# Altium schematic symbol library mcu_8bit_avr_usb_can_c51.SchLib: 20 symbols
Pins are listed as number, name and electrical type; pins without a type are passive.

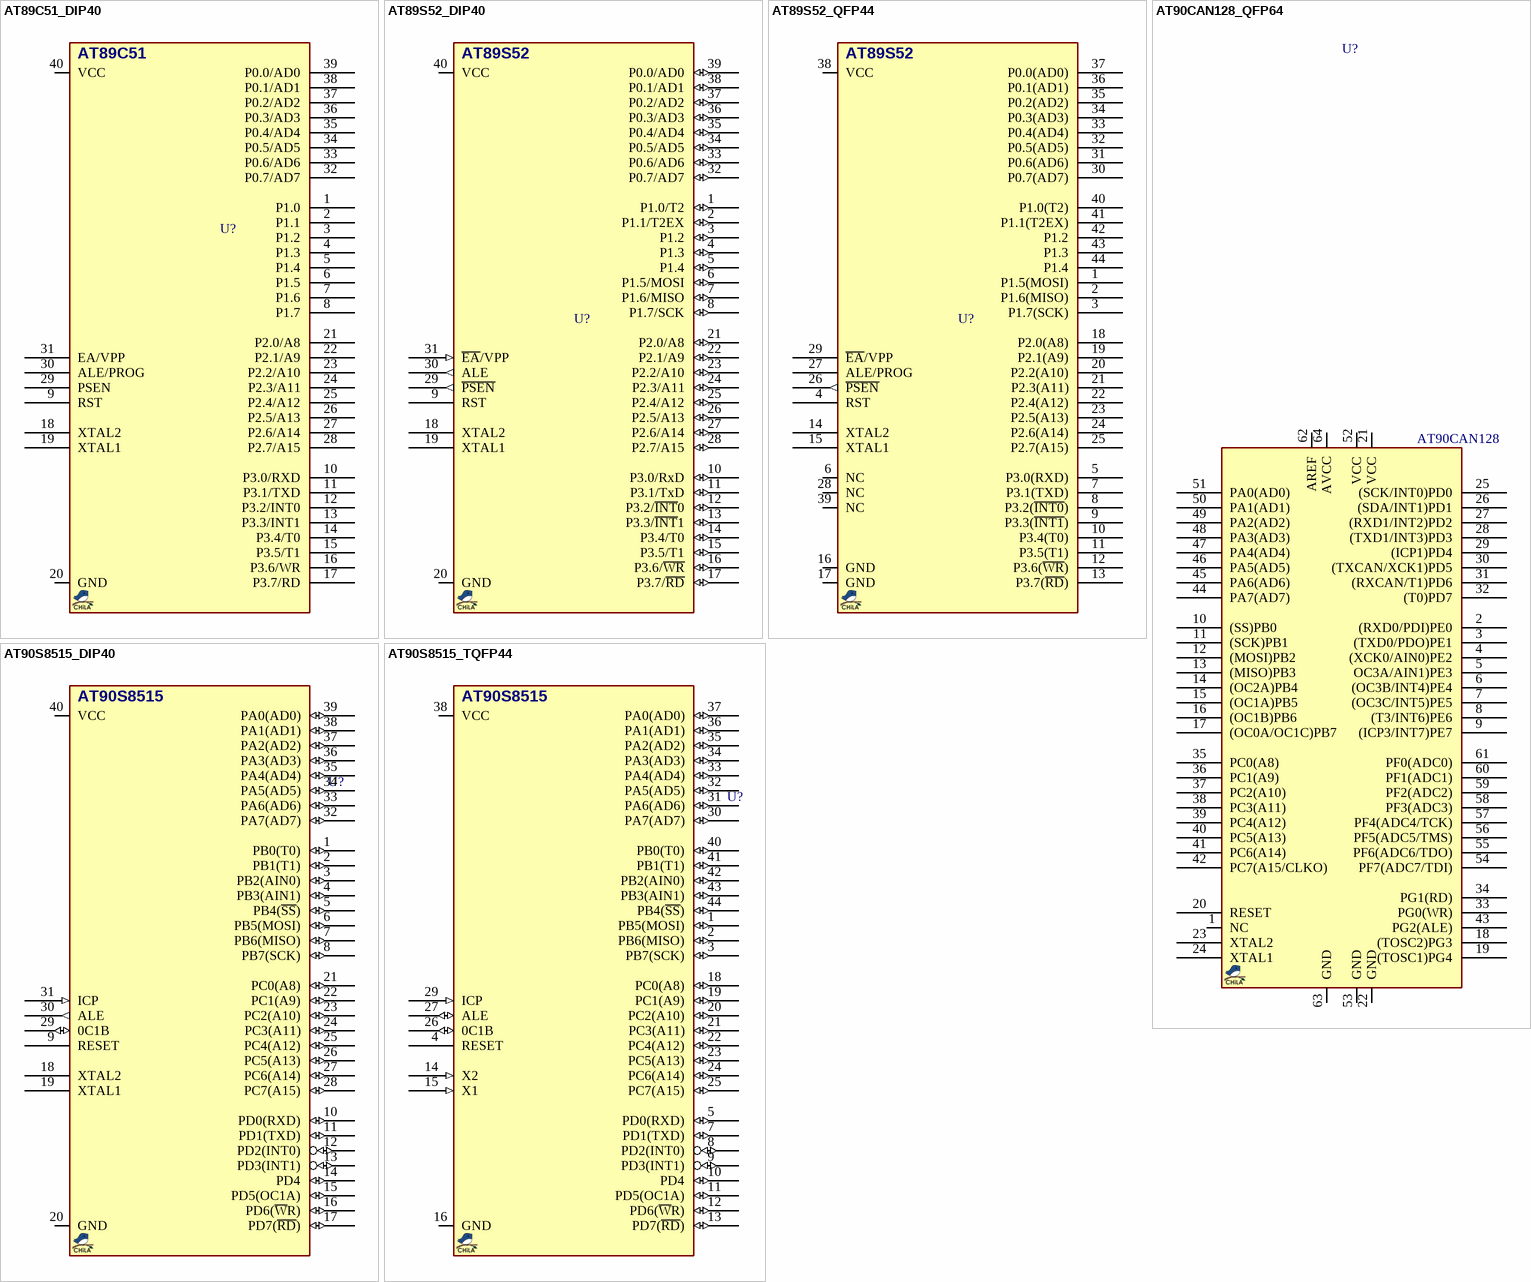
[diagram p0: symbols AT89C51_DIP40 to AT90S8515_TQFP44]

## AT89C51_DIP40
designator U?, comment AT89C51  (value not drawn)
MCU, 8051, 4KB, 24MHz; MANF_P#: AT89C51-24PI; MANF: ATMEL/MICROCHIP; PARAM2: 5V; PARAM: 128B RAM, -40~85oC; VALUE: AT89C51
footprint DIP_40DW (DIP, pitch 2.54mm, 600mil Width)
pins: 1 P1.0, 2 P1.1, 3 P1.2, 4 P1.3, 5 P1.4, 6 P1.5, 7 P1.6, 8 P1.7, 9 RST, 10 P3.0/RXD, 11 P3.1/TXD, 12 P3.2/INT0, 13 P3.3/INT1, 14 P3.4/T0, 15 P3.5/T1, 16 P3.6/WR, 17 P3.7/RD, 18 XTAL2, 19 XTAL1, 20 GND, 21 P2.0/A8, 22 P2.1/A9, 23 P2.2/A10, 24 P2.3/A11, 25 P2.4/A12, 26 P2.5/A13, 27 P2.6/A14, 28 P2.7/A15, 29 PSEN, 30 ALE/PROG, 31 EA/VPP, 32 P0.7/AD7, 33 P0.6/AD6, 34 P0.5/AD5, 35 P0.4/AD4, 36 P0.3/AD3, 37 P0.2/AD2, 38 P0.1/AD1, 39 P0.0/AD0, 40 VCC

## AT89S52_DIP40
designator U?, comment AT89S52  (value not drawn)
MCU, 8051, 8KB, up to 33MHz; MANF_P#: AT89S52-24PU; MANF: ATMEL/MICROCHIP; PARAM2: 4~5.5VCC; PARAM: 256B RAM, -40~85oC; PRICE: 2.5$; VALUE: AT89S52
footprint DIP_40DW (DIP, pitch 2.54mm, 600mil Width)
pins: 1 P1.0/T2 (io), 2 P1.1/T2EX (io), 3 P1.2 (io), 4 P1.3 (io), 5 P1.4 (io), 6 P1.5/MOSI (io), 7 P1.6/MISO (io), 8 P1.7/SCK (io), 9 RST, 10 P3.0/RxD (io), 11 P3.1/TxD (io), 12 P3.2/~{INT}0 (io), 13 P3.3/~{INT}1 (io), 14 P3.4/T0 (io), 15 P3.5/T1 (io), 16 P3.6/~{WR} (io), 17 P3.7/~{RD} (io), 18 XTAL2, 19 XTAL1, 20 GND, 21 P2.0/A8 (io), 22 P2.1/A9 (io), 23 P2.2/A10 (io), 24 P2.3/A11 (io), 25 P2.4/A12 (io), 26 P2.5/A13 (io), 27 P2.6/A14 (io), 28 P2.7/A15 (io), 29 ~{PSEN} (out), 30 ALE (out), 31 ~{EA}/VPP (in), 32 P0.7/AD7 (io), 33 P0.6/AD6 (io), 34 P0.5/AD5 (io), 35 P0.4/AD4 (io), 36 P0.3/AD3 (io), 37 P0.2/AD2 (io), 38 P0.1/AD1 (io), 39 P0.0/AD0 (io), 40 VCC

## AT89S52_QFP44
designator U?, comment AT89S52  (value not drawn)
MCU, 8051, 8KB, up to 33MHz; MANF_P#: AT89S52-24AU; MANF: ATMEL/MICROCHIP; PARAM2: 4~5.5VCC; PARAM: 256B RAM, -40~85oC; PRICE: 1.6$; VALUE: AT89S52
footprint QFG80_44 (TQFP44, PQFP44, A44 (Cypress), QFP44/MQFP44N (Dallas), VQ44,VQG44 (Xilinx), MS-026ACB, MS-022AB(JEDEC), 44A, 10.5X10.5, 0.8mm)
pins: 1 P1.5(MOSI), 2 P1.6(MISO), 3 P1.7(SCK), 4 RST, 5 P3.0(RXD), 6 NC, 7 P3.1(TXD), 8 P3.2(~{INT0}), 9 P3.3(~{INT1}), 10 P3.4(T0), 11 P3.5(T1), 12 P3.6(~{WR}), 13 P3.7(~{RD}), 14 XTAL2, 15 XTAL1, 16 GND, 17 GND, 18 P2.0(A8), 19 P2.1(A9), 20 P2.2(A10), 21 P2.3(A11), 22 P2.4(A12), 23 P2.5(A13), 24 P2.6(A14), 25 P2.7(A15), 26 ~{PSEN} (out), 27 ALE/PROG, 28 NC, 29 ~{EA}/VPP, 30 P0.7(AD7), 31 P0.6(AD6), 32 P0.5(AD5), 33 P0.4(AD4), 34 P0.3(AD3), 35 P0.2(AD2), 36 P0.1(AD1), 37 P0.0(AD0), 38 VCC, 39 NC, 40 P1.0(T2), 41 P1.1(T2EX), 42 P1.2, 43 P1.3, 44 P1.4

## AT90CAN128_QFP64
designator U?, comment AT90CAN128
MCU, AVR, 8-Bit, CAN, 128KB flash, 4KB SRAM, 16MHz; MANF_P#: AT90CAN128-16AU; MANF: ATMEL/MICROCHIP; PARAM2: 2.7~5.5v; PARAM: 128KB flash, 4KB SRAM, -40~85°C; PRICE: 7.5$; VALUE: AT90CAN128
footprint QFG80_64 (TQFP64, N65 (Cypress), , MS-026 AEB(JEDEC), 64A (atmel), 14X14mm, 0.8mm)
pins: 1 NC, 2 (RXD0/PDI)PE0, 3 (TXD0/PDO)PE1, 4 (XCK0/AIN0)PE2, 5 OC3A/AIN1)PE3, 6 (OC3B/INT4)PE4, 7 (OC3C/INT5)PE5, 8 (T3/INT6)PE6, 9 (ICP3/INT7)PE7, 10 (SS)PB0, 11 (SCK)PB1, 12 (MOSI)PB2, 13 (MISO)PB3, 14 (OC2A)PB4, 15 (OC1A)PB5, 16 (OC1B)PB6, 17 (OC0A/OC1C)PB7, 18 (TOSC2)PG3, 19 (TOSC1)PG4, 20 RESET, 21 VCC, 22 GND, 23 XTAL2, 24 XTAL1, 25 (SCK/INT0)PD0, 26 (SDA/INT1)PD1, 27 (RXD1/INT2)PD2, 28 (TXD1/INT3)PD3, 29 (ICP1)PD4, 30 (TXCAN/XCK1)PD5, 31 (RXCAN/T1)PD6, 32 (T0)PD7, 33 PG0(WR), 34 PG1(RD), 35 PC0(A8), 36 PC1(A9), 37 PC2(A10), 38 PC3(A11), 39 PC4(A12), 40 PC5(A13), 41 PC6(A14), 42 PC7(A15/CLKO), 43 PG2(ALE), 44 PA7(AD7), 45 PA6(AD6), 46 PA5(AD5), 47 PA4(AD4), 48 PA3(AD3), 49 PA2(AD2), 50 PA1(AD1), 51 PA0(AD0), 52 VCC, 53 GND, 54 PF7(ADC7/TDI), 55 PF6(ADC6/TDO), 56 PF5(ADC5/TMS), 57 PF4(ADC4/TCK), 58 PF3(ADC3), 59 PF2(ADC2), 60 PF1(ADC1), 61 PF0(ADC0), 62 AREF, 63 GND, 64 AVCC

## AT90S8515_DIP40
designator U?, comment AT90S8515  (value not drawn)
MCU, AVR, 8-Bit, 8KB, 512B RAM, 8MHz; MANF_P#: AT90S8515-8PC; DESC: ATMEGA161_DIP40, ATMEGA162, ATMEGA8515; MANF: ATMEL/MICROCHIP; PARAM2: 4~6V; PARAM: 8KB, 512B RAM, 8MHz; PRICE: Obsolete; VALUE: AT90S8515
footprint DIP_40DW (DIP, pitch 2.54mm, 600mil Width)
pins: 1 PB0(T0) (io), 2 PB1(T1) (io), 3 PB2(AIN0) (io), 4 PB3(AIN1) (io), 5 PB4(~{SS}) (io), 6 PB5(MOSI) (io), 7 PB6(MISO) (io), 8 PB7(SCK) (io), 9 RESET, 10 PD0(RXD) (io), 11 PD1(TXD) (io), 12 PD2(INT0) (io), 13 PD3(INT1) (io), 14 PD4 (io), 15 PD5(OC1A) (io), 16 PD6(~{W}R) (io), 17 PD7(~{RD}) (io), 18 XTAL2, 19 XTAL1, 20 GND, 21 PC0(A8) (io), 22 PC1(A9) (io), 23 PC2(A10) (io), 24 PC3(A11) (io), 25 PC4(A12) (io), 26 PC5(A13) (io), 27 PC6(A14) (io), 28 PC7(A15) (io), 29 0C1B (io), 30 ALE (out), 31 ICP (in), 32 PA7(AD7) (io), 33 PA6(AD6) (io), 34 PA5(AD5) (io), 35 PA4(AD4) (io), 36 PA3(AD3) (io), 37 PA2(AD2) (io), 38 PA1(AD1) (io), 39 PA0(AD0) (io), 40 VCC

## AT90S8515_TQFP44
designator U?
MCU, AVR, 8-Bit, 8KB, 512B RAM, 8MHz; MANF_P#: AT90S8515-8AC; DESC: ATMEGA161_TQFP44, ATMEGA162, ATMEGA8515; MANF: ATMEL/MICROCHIP; PARAM2: 4~6V; PARAM: 8KB, 512B RAM, 8MHz; PRICE: Obsolete
footprint QFG80_44 (TQFP44, PQFP44, A44 (Cypress), QFP44/MQFP44N (Dallas), VQ44,VQG44 (Xilinx), MS-026ACB, MS-022AB(JEDEC), 44A, 10.5X10.5, 0.8mm)
pins: 1 PB5(MOSI) (io), 2 PB6(MISO) (io), 3 PB7(SCK) (io), 4 RESET, 5 PD0(RXD) (io), 7 PD1(TXD) (io), 8 PD2(INT0) (io), 9 PD3(INT1) (io), 10 PD4 (io), 11 PD5(OC1A) (io), 12 PD6(~{W}R) (io), 13 PD7(~{RD}) (io), 14 X2 (in), 15 X1 (in), 16 GND (power), 18 PC0(A8) (io), 19 PC1(A9) (io), 20 PC2(A10) (io), 21 PC3(A11) (io), 22 PC4(A12) (io), 23 PC5(A13) (io), 24 PC6(A14) (io), 25 PC7(A15) (io), 26 0C1B (io), 27 ALE (io), 29 ICP (in), 30 PA7(AD7) (io), 31 PA6(AD6) (io), 32 PA5(AD5) (io), 33 PA4(AD4) (io), 34 PA3(AD3) (io), 35 PA2(AD2) (io), 36 PA1(AD1) (io), 37 PA0(AD0) (io), 38 VCC (power), 40 PB0(T0) (io), 41 PB1(T1) (io), 42 PB2(AIN0) (io), 43 PB3(AIN1) (io), 44 PB4(~{SS}) (io)
text: AT90S8515

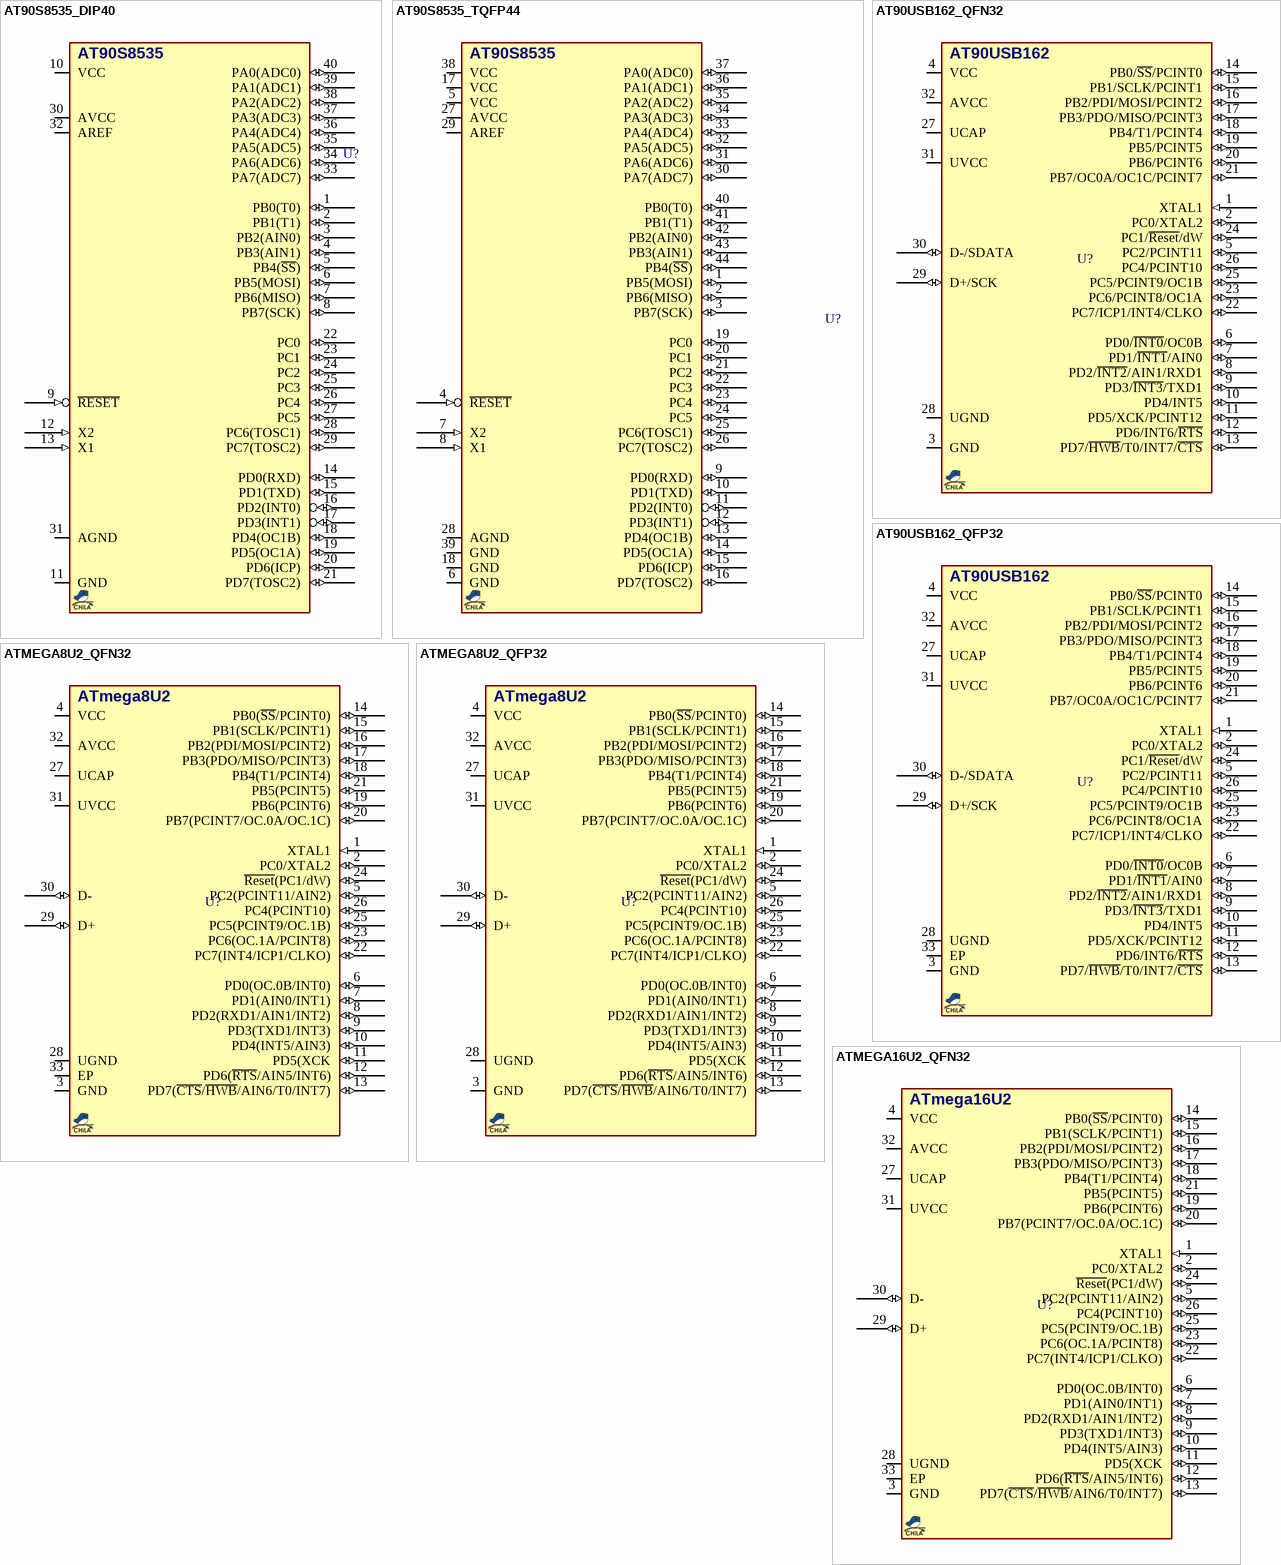
[diagram p1: symbols AT90S8535_DIP40 to ATMEGA16U2_QFN32]

## AT90S8535_DIP40
designator U?, comment AT90S8535  (value not drawn)
MCU, AVR, 8-Bit, 8KB, 512B RAM, 8MHz; MANF_P#: AT90S8535-8PI; DESC: ATMEGA16_DIP40, ATMEGA163, ATMEGA32, ATMEGA323, ATMEGA8535; MANF: ATMEL/MICROCHIP; PARAM2: 4~6V; PARAM: 8KB, 512B RAM, 8MHz; PRICE: Obsolete; VALUE: AT90S8535
footprint DIP_40DW (DIP, pitch 2.54mm, 600mil Width)
pins: 1 PB0(T0) (io), 2 PB1(T1) (io), 3 PB2(AIN0) (io), 4 PB3(AIN1) (io), 5 PB4(~{SS}) (io), 6 PB5(MOSI) (io), 7 PB6(MISO) (io), 8 PB7(SCK) (io), 9 ~{RESET} (in), 10 VCC (power), 11 GND (power), 12 X2 (in), 13 X1 (in), 14 PD0(RXD) (io), 15 PD1(TXD) (io), 16 PD2(INT0) (io), 17 PD3(INT1) (io), 18 PD4(OC1B) (io), 19 PD5(OC1A) (io), 20 PD6(ICP) (io), 21 PD7(TOSC2) (io), 22 PC0 (io), 23 PC1 (io), 24 PC2 (io), 25 PC3 (io), 26 PC4 (io), 27 PC5 (io), 28 PC6(TOSC1) (io), 29 PC7(TOSC2) (io), 30 AVCC, 31 AGND, 32 AREF, 33 PA7(ADC7) (io), 34 PA6(ADC6) (io), 35 PA5(ADC5) (io), 36 PA4(ADC4) (io), 37 PA3(ADC3) (io), 38 PA2(ADC2) (io), 39 PA1(ADC1) (io), 40 PA0(ADC0) (io)

## AT90S8535_TQFP44
designator U?, comment AT90S8535  (value not drawn)
MCU, AVR, 8-Bit, 8KB, 512B RAM, 8MHz; MANF_P#: AT90S8535-8AI; DESC: ATMEGA16_TQFP44, ATMEGA163, ATMEGA32, ATMEGA323, ATMEGA8535; MANF: ATMEL/MICROCHIP; PARAM2: 4~6V; PARAM: 8KB, 512B RAM, 8MHz; PRICE: Obsolete; VALUE: AT90S8535
footprint QFG80_44 (TQFP44, PQFP44, A44 (Cypress), QFP44/MQFP44N (Dallas), VQ44,VQG44 (Xilinx), MS-026ACB, MS-022AB(JEDEC), 44A, 10.5X10.5, 0.8mm)
pins: 1 PB5(MOSI) (io), 2 PB6(MISO) (io), 3 PB7(SCK) (io), 4 ~{RESET} (in), 5 VCC, 6 GND, 7 X2 (in), 8 X1 (in), 9 PD0(RXD) (io), 10 PD1(TXD) (io), 11 PD2(INT0) (io), 12 PD3(INT1) (io), 13 PD4(OC1B) (io), 14 PD5(OC1A) (io), 15 PD6(ICP) (io), 16 PD7(TOSC2) (io), 17 VCC, 18 GND, 19 PC0 (io), 20 PC1 (io), 21 PC2 (io), 22 PC3 (io), 23 PC4 (io), 24 PC5 (io), 25 PC6(TOSC1) (io), 26 PC7(TOSC2) (io), 27 AVCC, 28 AGND, 29 AREF, 30 PA7(ADC7) (io), 31 PA6(ADC6) (io), 32 PA5(ADC5) (io), 33 PA4(ADC4) (io), 34 PA3(ADC3) (io), 35 PA2(ADC2) (io), 36 PA1(ADC1) (io), 37 PA0(ADC0) (io), 38 VCC (power), 39 GND (power), 40 PB0(T0) (io), 41 PB1(T1) (io), 42 PB2(AIN0) (io), 43 PB3(AIN1) (io), 44 PB4(~{SS}) (io)

## AT90USB162_QFN32
designator U?, comment AT90USB162  (value not drawn)
MCU, AVR, 8-Bit, USB, 16KB, 512B RAM, 16MHz; MANF_P#: AT90USB162-16MU; DESC: 512B EEPROM; MANF: ATMEL/MICROCHIP; PARAM2: 2.7~5.5VCC; PARAM: 16KB, 512B RAM, 16MHz, -40~85oC; PRICE: 2.7$; VALUE: AT90USB162
footprint QFN50_32T (QFN, 32, 5X5mm, 0.5mm)
pins: 1 XTAL1 (in), 2 PC0/XTAL2 (io), 3 GND (power), 4 VCC (power), 5 PC2/PCINT11 (io), 6 PD0/~{INT0}/OC0B (io), 7 PD1/~{INT1}/AIN0 (io), 8 PD2/~{INT2}/AIN1/RXD1 (io), 9 PD3/~{INT3}/TXD1 (io), 10 PD4/INT5 (io), 11 PD5/XCK/PCINT12 (io), 12 PD6/INT6/~{RTS} (io), 13 PD7/~{HWB}/T0/INT7/~{CTS} (io), 14 PB0/~{SS}/PCINT0 (io), 15 PB1/SCLK/PCINT1 (io), 16 PB2/PDI/MOSI/PCINT2 (io), 17 PB3/PDO/MISO/PCINT3 (io), 18 PB4/T1/PCINT4 (io), 19 PB5/PCINT5 (io), 20 PB6/PCINT6 (io), 21 PB7/OC0A/OC1C/PCINT7 (io), 22 PC7/ICP1/INT4/CLKO (io), 23 PC6/PCINT8/OC1A (io), 24 PC1/~{Reset}/dW (io), 25 PC5/PCINT9/OC1B (io), 26 PC4/PCINT10 (io), 27 UCAP (power), 28 UGND (power), 29 D+/SCK (io), 30 D-/SDATA (io), 31 UVCC (power), 32 AVCC (power)

## AT90USB162_QFP32
designator U?, comment AT90USB162  (value not drawn)
MCU, AVR, 8-Bit, USB, 16KB, 512B RAM, 16MHz; MANF_P#: AT90USB162-16AU; DESC: 512B EEPROM; MANF: ATMEL/MICROCHIP; PARAM2: 2.7~5.5VCC; PARAM: 16KB, 512B RAM, 16MHz, -40~85oC; PRICE: 2.7$; VALUE: AT90USB162
footprint QFG80_32 (TQFP32, A32 (Cypress), GP32 (Zarlink), MS-026ABA(JEDEC), 7X7mm, 0.8mm)
pins: 1 XTAL1 (in), 2 PC0/XTAL2 (io), 3 GND (power), 4 VCC (power), 5 PC2/PCINT11 (io), 6 PD0/~{INT0}/OC0B (io), 7 PD1/~{INT1}/AIN0 (io), 8 PD2/~{INT2}/AIN1/RXD1 (io), 9 PD3/~{INT3}/TXD1 (io), 10 PD4/INT5 (io), 11 PD5/XCK/PCINT12 (io), 12 PD6/INT6/~{RTS} (io), 13 PD7/~{HWB}/T0/INT7/~{CTS} (io), 14 PB0/~{SS}/PCINT0 (io), 15 PB1/SCLK/PCINT1 (io), 16 PB2/PDI/MOSI/PCINT2 (io), 17 PB3/PDO/MISO/PCINT3 (io), 18 PB4/T1/PCINT4 (io), 19 PB5/PCINT5 (io), 20 PB6/PCINT6 (io), 21 PB7/OC0A/OC1C/PCINT7 (io), 22 PC7/ICP1/INT4/CLKO (io), 23 PC6/PCINT8/OC1A (io), 24 PC1/~{Reset}/dW (io), 25 PC5/PCINT9/OC1B (io), 26 PC4/PCINT10 (io), 27 UCAP (power), 28 UGND (power), 29 D+/SCK (io), 30 D-/SDATA (io), 31 UVCC (power), 32 AVCC (power), 33 EP (power)

## ATMEGA8U2_QFN32
designator U?, comment ATMEGA8U2  (value not drawn)
MCU, AVR, 8-Bit, USB, 8KB, 512B RAM, 16MHz; MANF_P#: ATMEGA8U2-MU; DESC: 512B EEPROM; MANF: ATMEL/MICROCHIP; PARAM2: 2.7~5.5VCC; PARAM: 8KB, 512B RAM, 16MHz, -40~85oC; PRICE: 2.2$; VALUE: ATMEGA8U2
footprint QFN50_32T (QFN, 32, 5X5mm, 0.5mm)
pins: 1 XTAL1 (in), 2 PC0/XTAL2 (io), 3 GND (power), 4 VCC (power), 5 PC2(PCINT11/AIN2) (io), 6 PD0(OC.0B/INT0) (io), 7 PD1(AIN0/INT1) (io), 8 PD2(RXD1/AIN1/INT2) (io), 9 PD3(TXD1/INT3) (io), 10 PD4(INT5/AIN3) (io), 11 PD5(XCK (io), 12 PD6(~{RTS}/AIN5/INT6) (io), 13 PD7(~{CTS}/~{HWB}/AIN6/T0/INT7) (io), 14 PB0(~{SS}/PCINT0) (io), 15 PB1(SCLK/PCINT1) (io), 16 PB2(PDI/MOSI/PCINT2) (io), 17 PB3(PDO/MISO/PCINT3) (io), 18 PB4(T1/PCINT4) (io), 19 PB6(PCINT6) (io), 20 PB7(PCINT7/OC.0A/OC.1C) (io), 21 PB5(PCINT5) (io), 22 PC7(INT4/ICP1/CLKO) (io), 23 PC6(OC.1A/PCINT8) (io), 24 ~{Reset}(PC1/dW) (io), 25 PC5(PCINT9/OC.1B) (io), 26 PC4(PCINT10) (io), 27 UCAP (power), 28 UGND (power), 29 D+ (io), 30 D- (io), 31 UVCC (power), 32 AVCC (power), 33 EP (power)
text: ATmega8U2

## ATMEGA8U2_QFP32
designator U?, comment ATMEGA8U2  (value not drawn)
MCU, AVR, 8-Bit, USB, 8KB, 512B RAM, 16MHz; MANF_P#: ATMEGA8U2-AU; DESC: 512B EEPROM; MANF: ATMEL/MICROCHIP; PARAM2: 2.7~5.5VCC; PARAM: 8KB, 512B RAM, 16MHz, -40~85oC; PRICE: 2.2$; VALUE: ATMEGA8U2
footprint QFG80_32 (TQFP32, A32 (Cypress), GP32 (Zarlink), MS-026ABA(JEDEC), 7X7mm, 0.8mm)
pins: 1 XTAL1 (in), 2 PC0/XTAL2 (io), 3 GND (power), 4 VCC (power), 5 PC2(PCINT11/AIN2) (io), 6 PD0(OC.0B/INT0) (io), 7 PD1(AIN0/INT1) (io), 8 PD2(RXD1/AIN1/INT2) (io), 9 PD3(TXD1/INT3) (io), 10 PD4(INT5/AIN3) (io), 11 PD5(XCK (io), 12 PD6(~{RTS}/AIN5/INT6) (io), 13 PD7(~{CTS}/~{HWB}/AIN6/T0/INT7) (io), 14 PB0(~{SS}/PCINT0) (io), 15 PB1(SCLK/PCINT1) (io), 16 PB2(PDI/MOSI/PCINT2) (io), 17 PB3(PDO/MISO/PCINT3) (io), 18 PB4(T1/PCINT4) (io), 19 PB6(PCINT6) (io), 20 PB7(PCINT7/OC.0A/OC.1C) (io), 21 PB5(PCINT5) (io), 22 PC7(INT4/ICP1/CLKO) (io), 23 PC6(OC.1A/PCINT8) (io), 24 ~{Reset}(PC1/dW) (io), 25 PC5(PCINT9/OC.1B) (io), 26 PC4(PCINT10) (io), 27 UCAP (power), 28 UGND (power), 29 D+ (io), 30 D- (io), 31 UVCC (power), 32 AVCC (power)
text: ATmega8U2

## ATMEGA16U2_QFN32
designator U?, comment ATMEGA16U2  (value not drawn)
MCU, AVR, 8-Bit, USB, 16KB, 512B RAM, 16MHz; MANF_P#: ATMEGA16U2-MU; DESC: 512B EEPROM; MANF: ATMEL/MICROCHIP; PARAM2: 2.7~5.5VCC; PARAM: 16KB, 512B RAM, 16MHz, -40~85oC; PRICE: 2.5$; VALUE: ATMEGA16U2
footprint QFN50_32T (QFN, 32, 5X5mm, 0.5mm)
pins: 1 XTAL1 (in), 2 PC0/XTAL2 (io), 3 GND (power), 4 VCC (power), 5 PC2(PCINT11/AIN2) (io), 6 PD0(OC.0B/INT0) (io), 7 PD1(AIN0/INT1) (io), 8 PD2(RXD1/AIN1/INT2) (io), 9 PD3(TXD1/INT3) (io), 10 PD4(INT5/AIN3) (io), 11 PD5(XCK (io), 12 PD6(~{RTS}/AIN5/INT6) (io), 13 PD7(~{CTS}/~{HWB}/AIN6/T0/INT7) (io), 14 PB0(~{SS}/PCINT0) (io), 15 PB1(SCLK/PCINT1) (io), 16 PB2(PDI/MOSI/PCINT2) (io), 17 PB3(PDO/MISO/PCINT3) (io), 18 PB4(T1/PCINT4) (io), 19 PB6(PCINT6) (io), 20 PB7(PCINT7/OC.0A/OC.1C) (io), 21 PB5(PCINT5) (io), 22 PC7(INT4/ICP1/CLKO) (io), 23 PC6(OC.1A/PCINT8) (io), 24 ~{Reset}(PC1/dW) (io), 25 PC5(PCINT9/OC.1B) (io), 26 PC4(PCINT10) (io), 27 UCAP (power), 28 UGND (power), 29 D+ (io), 30 D- (io), 31 UVCC (power), 32 AVCC (power), 33 EP (power)
text: ATmega16U2

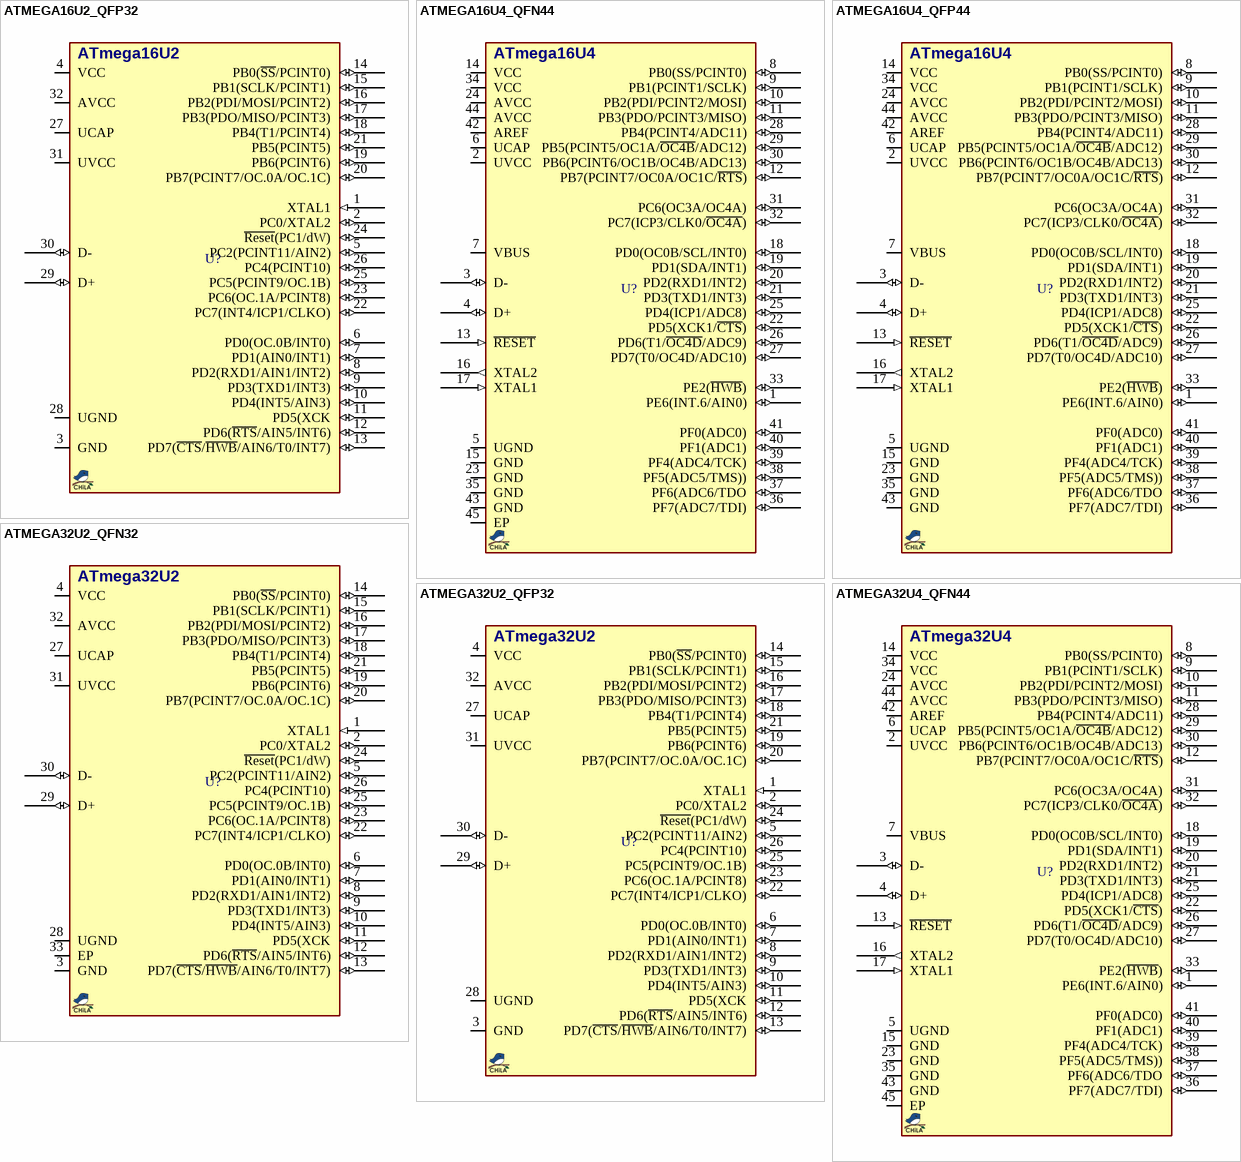
[diagram p2: symbols ATMEGA16U2_QFP32 to ATMEGA32U4_QFN44]

## ATMEGA16U2_QFP32
designator U?, comment ATMEGA16U2  (value not drawn)
MCU, AVR, 8-Bit, USB, 16KB, 512B RAM, 16MHz; MANF_P#: ATMEGA16U2-AU; DESC: 512B EEPROM; MANF: ATMEL/MICROCHIP; PARAM2: 2.7~5.5VCC; PARAM: 16KB, 512B RAM, 16MHz, -40~85oC; PRICE: 2.5$; VALUE: ATMEGA16U2
footprint QFG80_32 (TQFP32, A32 (Cypress), GP32 (Zarlink), MS-026ABA(JEDEC), 7X7mm, 0.8mm)
pins: 1 XTAL1 (in), 2 PC0/XTAL2 (io), 3 GND (power), 4 VCC (power), 5 PC2(PCINT11/AIN2) (io), 6 PD0(OC.0B/INT0) (io), 7 PD1(AIN0/INT1) (io), 8 PD2(RXD1/AIN1/INT2) (io), 9 PD3(TXD1/INT3) (io), 10 PD4(INT5/AIN3) (io), 11 PD5(XCK (io), 12 PD6(~{RTS}/AIN5/INT6) (io), 13 PD7(~{CTS}/~{HWB}/AIN6/T0/INT7) (io), 14 PB0(~{SS}/PCINT0) (io), 15 PB1(SCLK/PCINT1) (io), 16 PB2(PDI/MOSI/PCINT2) (io), 17 PB3(PDO/MISO/PCINT3) (io), 18 PB4(T1/PCINT4) (io), 19 PB6(PCINT6) (io), 20 PB7(PCINT7/OC.0A/OC.1C) (io), 21 PB5(PCINT5) (io), 22 PC7(INT4/ICP1/CLKO) (io), 23 PC6(OC.1A/PCINT8) (io), 24 ~{Reset}(PC1/dW) (io), 25 PC5(PCINT9/OC.1B) (io), 26 PC4(PCINT10) (io), 27 UCAP (power), 28 UGND (power), 29 D+ (io), 30 D- (io), 31 UVCC (power), 32 AVCC (power)
text: ATmega16U2

## ATMEGA16U4_QFN44
designator U?, comment ATMEGA16U4  (value not drawn)
MCU, AVR, 8-Bit, USB, 16KB, 1.25KB RAM, 16MHz; MANF_P#: ATMEGA16U4-MU; DESC: 512B EEPROM; MANF: ATMEL/MICROCHIP; PARAM2: 2.7~5.5VCC; PARAM: 16KB, 1.25KB RAM, 16MHz, -40~85oC; PRICE: 4$; VALUE: ATMEGA16U4
footprint QFN50_44T (QFN-44, 44ML, pitch:0.5mm, 7x7x1mm)
pins: 1 PE6(INT.6/AIN0) (io), 2 UVCC (power), 3 D- (io), 4 D+ (io), 5 UGND (power), 6 UCAP, 7 VBUS, 8 PB0(SS/PCINT0) (io), 9 PB1(PCINT1/SCLK) (io), 10 PB2(PDI/PCINT2/MOSI) (io), 11 PB3(PDO/PCINT3/MISO) (io), 12 PB7(PCINT7/OC0A/OC1C/~{RTS}) (io), 13 ~{RESET} (in), 14 VCC (power), 15 GND (power), 16 XTAL2 (out), 17 XTAL1 (in), 18 PD0(OC0B/SCL/INT0) (io), 19 PD1(SDA/INT1) (io), 20 PD2(RXD1/INT2) (io), 21 PD3(TXD1/INT3) (io), 22 PD5(XCK1/~{CTS}) (io), 23 GND (power), 24 AVCC (power), 25 PD4(ICP1/ADC8) (io), 26 PD6(T1/~{OC4D}/ADC9) (io), 27 PD7(T0/OC4D/ADC10) (io), 28 PB4(PCINT4/ADC11) (io), 29 PB5(PCINT5/OC1A/~{OC4B}/ADC12) (io), 30 PB6(PCINT6/OC1B/OC4B/ADC13) (io), 31 PC6(OC3A/OC4A) (io), 32 PC7(ICP3/CLK0/~{OC4A}) (io), 33 PE2(~{HWB}) (io), 34 VCC (power), 35 GND (power), 36 PF7(ADC7/TDI) (io), 37 PF6(ADC6/TDO (io), 38 PF5(ADC5/TMS)) (io), 39 PF4(ADC4/TCK) (io), 40 PF1(ADC1) (io), 41 PF0(ADC0) (io), 42 AREF, 43 GND (power), 44 AVCC (power), 45 EP (power)
text: ATmega16U4

## ATMEGA16U4_QFP44
designator U?, comment ATMEGA16U4  (value not drawn)
MCU, AVR, 8-Bit, USB, 16KB, 1.25KB RAM, 16MHz; MANF_P#: ATMEGA16U4-AU; DESC: 512B EEPROM; MANF: ATMEL/MICROCHIP; PARAM2: 2.7~5.5VCC; PARAM: 16KB, 1.25KB RAM, 16MHz, -40~85oC; PRICE: 4$; VALUE: ATMEGA16U4
footprint QFG80_44 (TQFP44, PQFP44, A44 (Cypress), QFP44/MQFP44N (Dallas), VQ44,VQG44 (Xilinx), MS-026ACB, MS-022AB(JEDEC), 44A, 10.5X10.5, 0.8mm)
pins: 1 PE6(INT.6/AIN0) (io), 2 UVCC (power), 3 D- (io), 4 D+ (io), 5 UGND (power), 6 UCAP, 7 VBUS, 8 PB0(SS/PCINT0) (io), 9 PB1(PCINT1/SCLK) (io), 10 PB2(PDI/PCINT2/MOSI) (io), 11 PB3(PDO/PCINT3/MISO) (io), 12 PB7(PCINT7/OC0A/OC1C/~{RTS}) (io), 13 ~{RESET} (in), 14 VCC (power), 15 GND (power), 16 XTAL2 (out), 17 XTAL1 (in), 18 PD0(OC0B/SCL/INT0) (io), 19 PD1(SDA/INT1) (io), 20 PD2(RXD1/INT2) (io), 21 PD3(TXD1/INT3) (io), 22 PD5(XCK1/~{CTS}) (io), 23 GND (power), 24 AVCC (power), 25 PD4(ICP1/ADC8) (io), 26 PD6(T1/~{OC4D}/ADC9) (io), 27 PD7(T0/OC4D/ADC10) (io), 28 PB4(PCINT4/ADC11) (io), 29 PB5(PCINT5/OC1A/~{OC4B}/ADC12) (io), 30 PB6(PCINT6/OC1B/OC4B/ADC13) (io), 31 PC6(OC3A/OC4A) (io), 32 PC7(ICP3/CLK0/~{OC4A}) (io), 33 PE2(~{HWB}) (io), 34 VCC (power), 35 GND (power), 36 PF7(ADC7/TDI) (io), 37 PF6(ADC6/TDO (io), 38 PF5(ADC5/TMS)) (io), 39 PF4(ADC4/TCK) (io), 40 PF1(ADC1) (io), 41 PF0(ADC0) (io), 42 AREF, 43 GND (power), 44 AVCC (power)
text: ATmega16U4

## ATMEGA32U2_QFN32
designator U?, comment ATMEGA32U2  (value not drawn)
MCU, AVR, 8-Bit, USB, 32KB, 1KB RAM, 16MHz; MANF_P#: ATMEGA32U2-MU; DESC: 1KB EEPROM; MANF: ATMEL/MICROCHIP; PARAM2: 2.7~5.5VCC; PARAM: 32KB, 1KB RAM, 16MHz, -40~85oC; PRICE: 3$; VALUE: ATMEGA32U2
footprint QFN50_32T (QFN, 32, 5X5mm, 0.5mm)
pins: 1 XTAL1 (in), 2 PC0/XTAL2 (io), 3 GND (power), 4 VCC (power), 5 PC2(PCINT11/AIN2) (io), 6 PD0(OC.0B/INT0) (io), 7 PD1(AIN0/INT1) (io), 8 PD2(RXD1/AIN1/INT2) (io), 9 PD3(TXD1/INT3) (io), 10 PD4(INT5/AIN3) (io), 11 PD5(XCK (io), 12 PD6(~{RTS}/AIN5/INT6) (io), 13 PD7(~{CTS}/~{HWB}/AIN6/T0/INT7) (io), 14 PB0(~{SS}/PCINT0) (io), 15 PB1(SCLK/PCINT1) (io), 16 PB2(PDI/MOSI/PCINT2) (io), 17 PB3(PDO/MISO/PCINT3) (io), 18 PB4(T1/PCINT4) (io), 19 PB6(PCINT6) (io), 20 PB7(PCINT7/OC.0A/OC.1C) (io), 21 PB5(PCINT5) (io), 22 PC7(INT4/ICP1/CLKO) (io), 23 PC6(OC.1A/PCINT8) (io), 24 ~{Reset}(PC1/dW) (io), 25 PC5(PCINT9/OC.1B) (io), 26 PC4(PCINT10) (io), 27 UCAP (power), 28 UGND (power), 29 D+ (io), 30 D- (io), 31 UVCC (power), 32 AVCC (power), 33 EP (power)
text: ATmega32U2

## ATMEGA32U2_QFP32
designator U?, comment ATMEGA32U2  (value not drawn)
MCU, AVR, 8-Bit, USB, 32KB, 1KB RAM, 16MHz; MANF_P#: ATMEGA32U2-AU; DESC: 1KB EEPROM; MANF: ATMEL/MICROCHIP; PARAM2: 2.7~5.5VCC; PARAM: 32KB, 1KB RAM, 16MHz, -40~85oC; PRICE: 3$; VALUE: ATMEGA32U2
footprint QFG80_32 (TQFP32, A32 (Cypress), GP32 (Zarlink), MS-026ABA(JEDEC), 7X7mm, 0.8mm)
pins: 1 XTAL1 (in), 2 PC0/XTAL2 (io), 3 GND (power), 4 VCC (power), 5 PC2(PCINT11/AIN2) (io), 6 PD0(OC.0B/INT0) (io), 7 PD1(AIN0/INT1) (io), 8 PD2(RXD1/AIN1/INT2) (io), 9 PD3(TXD1/INT3) (io), 10 PD4(INT5/AIN3) (io), 11 PD5(XCK (io), 12 PD6(~{RTS}/AIN5/INT6) (io), 13 PD7(~{CTS}/~{HWB}/AIN6/T0/INT7) (io), 14 PB0(~{SS}/PCINT0) (io), 15 PB1(SCLK/PCINT1) (io), 16 PB2(PDI/MOSI/PCINT2) (io), 17 PB3(PDO/MISO/PCINT3) (io), 18 PB4(T1/PCINT4) (io), 19 PB6(PCINT6) (io), 20 PB7(PCINT7/OC.0A/OC.1C) (io), 21 PB5(PCINT5) (io), 22 PC7(INT4/ICP1/CLKO) (io), 23 PC6(OC.1A/PCINT8) (io), 24 ~{Reset}(PC1/dW) (io), 25 PC5(PCINT9/OC.1B) (io), 26 PC4(PCINT10) (io), 27 UCAP (power), 28 UGND (power), 29 D+ (io), 30 D- (io), 31 UVCC (power), 32 AVCC (power)
text: ATmega32U2

## ATMEGA32U4_QFN44
designator U?, comment ATMEGA32U4  (value not drawn)
MCU, AVR, 8-Bit, USB, 32KB, 2.5KB RAM, 16MHz; MANF_P#: ATMEGA32U4-MU; DESC: 1KB EEPROM; MANF: ATMEL/MICROCHIP; PARAM2: 2.7~5.5VCC; PARAM: 32KB, 2.5KB RAM, 16MHz, -40~85oC; PRICE: 4$; VALUE: ATMEGA32U4
footprint QFN50_44T (QFN-44, 44ML, pitch:0.5mm, 7x7x1mm)
pins: 1 PE6(INT.6/AIN0) (io), 2 UVCC (power), 3 D- (io), 4 D+ (io), 5 UGND (power), 6 UCAP, 7 VBUS, 8 PB0(SS/PCINT0) (io), 9 PB1(PCINT1/SCLK) (io), 10 PB2(PDI/PCINT2/MOSI) (io), 11 PB3(PDO/PCINT3/MISO) (io), 12 PB7(PCINT7/OC0A/OC1C/~{RTS}) (io), 13 ~{RESET} (in), 14 VCC (power), 15 GND (power), 16 XTAL2 (out), 17 XTAL1 (in), 18 PD0(OC0B/SCL/INT0) (io), 19 PD1(SDA/INT1) (io), 20 PD2(RXD1/INT2) (io), 21 PD3(TXD1/INT3) (io), 22 PD5(XCK1/~{CTS}) (io), 23 GND (power), 24 AVCC (power), 25 PD4(ICP1/ADC8) (io), 26 PD6(T1/~{OC4D}/ADC9) (io), 27 PD7(T0/OC4D/ADC10) (io), 28 PB4(PCINT4/ADC11) (io), 29 PB5(PCINT5/OC1A/~{OC4B}/ADC12) (io), 30 PB6(PCINT6/OC1B/OC4B/ADC13) (io), 31 PC6(OC3A/OC4A) (io), 32 PC7(ICP3/CLK0/~{OC4A}) (io), 33 PE2(~{HWB}) (io), 34 VCC (power), 35 GND (power), 36 PF7(ADC7/TDI) (io), 37 PF6(ADC6/TDO (io), 38 PF5(ADC5/TMS)) (io), 39 PF4(ADC4/TCK) (io), 40 PF1(ADC1) (io), 41 PF0(ADC0) (io), 42 AREF, 43 GND (power), 44 AVCC (power), 45 EP (power)
text: ATmega32U4

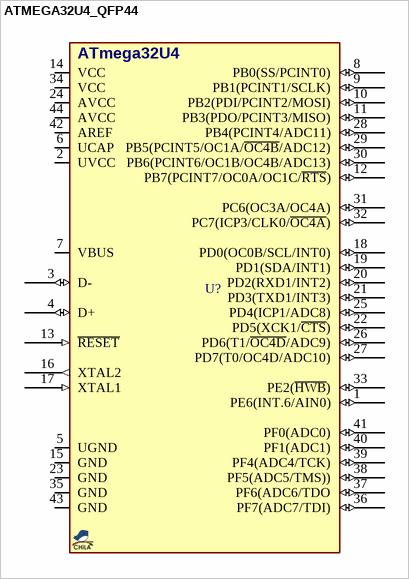
[diagram p3: symbol ATMEGA32U4_QFP44]

## ATMEGA32U4_QFP44
designator U?, comment ATMEGA32U4  (value not drawn)
MCU, AVR, 8-Bit, USB, 32KB, 2.5KB RAM, 16MHz; MANF_P#: ATMEGA16U4-AU; DESC: 1KB EEPROM; MANF: ATMEL/MICROCHIP; PARAM2: 2.7~5.5VCC; PARAM: 32KB, 2.5KB RAM, 16MHz, -40~85oC; PRICE: 4$; VALUE: ATMEGA32U4
footprint QFG80_44 (TQFP44, PQFP44, A44 (Cypress), QFP44/MQFP44N (Dallas), VQ44,VQG44 (Xilinx), MS-026ACB, MS-022AB(JEDEC), 44A, 10.5X10.5, 0.8mm)
pins: 1 PE6(INT.6/AIN0) (io), 2 UVCC (power), 3 D- (io), 4 D+ (io), 5 UGND (power), 6 UCAP, 7 VBUS, 8 PB0(SS/PCINT0) (io), 9 PB1(PCINT1/SCLK) (io), 10 PB2(PDI/PCINT2/MOSI) (io), 11 PB3(PDO/PCINT3/MISO) (io), 12 PB7(PCINT7/OC0A/OC1C/~{RTS}) (io), 13 ~{RESET} (in), 14 VCC (power), 15 GND (power), 16 XTAL2 (out), 17 XTAL1 (in), 18 PD0(OC0B/SCL/INT0) (io), 19 PD1(SDA/INT1) (io), 20 PD2(RXD1/INT2) (io), 21 PD3(TXD1/INT3) (io), 22 PD5(XCK1/~{CTS}) (io), 23 GND (power), 24 AVCC (power), 25 PD4(ICP1/ADC8) (io), 26 PD6(T1/~{OC4D}/ADC9) (io), 27 PD7(T0/OC4D/ADC10) (io), 28 PB4(PCINT4/ADC11) (io), 29 PB5(PCINT5/OC1A/~{OC4B}/ADC12) (io), 30 PB6(PCINT6/OC1B/OC4B/ADC13) (io), 31 PC6(OC3A/OC4A) (io), 32 PC7(ICP3/CLK0/~{OC4A}) (io), 33 PE2(~{HWB}) (io), 34 VCC (power), 35 GND (power), 36 PF7(ADC7/TDI) (io), 37 PF6(ADC6/TDO (io), 38 PF5(ADC5/TMS)) (io), 39 PF4(ADC4/TCK) (io), 40 PF1(ADC1) (io), 41 PF0(ADC0) (io), 42 AREF, 43 GND (power), 44 AVCC (power)
text: ATmega32U4